# Altium schematic symbol library STF28-461.Schlib: 1 symbol
Pins are listed as number, name and electrical type; pins without a type are passive.

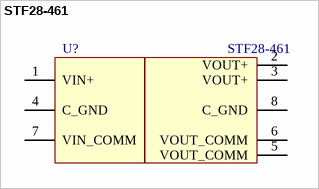
[diagram p0: symbol STF28-461]

## STF28-461
designator U?
Назначение: Входной фильтр; Наименование: STF28-461
footprint STF 28-461
pins: 1 VIN+, 2 VOUT+, 3 VOUT+, 4 C_GND, 5 VOUT_COMM, 6 VOUT_COMM, 7 VIN_COMM, 8 C_GND